# Altium schematic symbol library Connectors.SchLib: 23 symbols
Pins are listed as number, name and electrical type; pins without a type are passive.

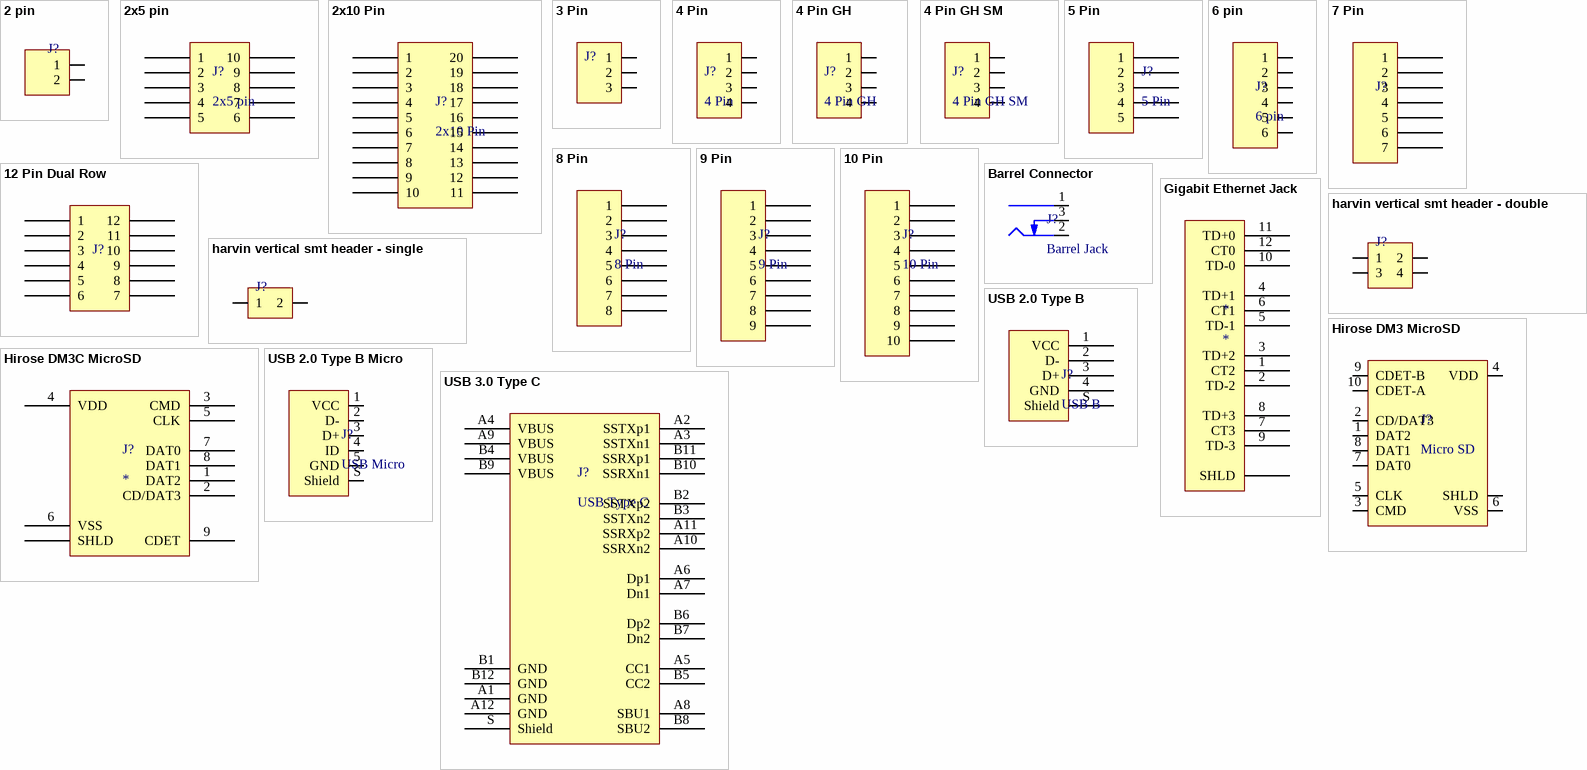
[diagram p0: symbols 2 pin to USB 3.0 Type C]

## 2 pin
designator J?  (value not drawn)
2 pin header, male
footprint HDR 1x2 2.54
pins: 1, 2 "Pin header"

## 2x5 pin
designator J?
2x5 pin header, male
pins: 1, 2, 3, 4, 5, 6, 7, 8, 9, 10

## 2x10 Pin
designator J?
2x10 pin header, male
pins: 1, 2, 3, 4, 5, 6, 7, 8, 9, 10, 11, 12, 13, 14, 15, 16, 17, 18, 19, 20

## 3 Pin
designator J?  (value not drawn)
3 pin header, male
footprint HDR 1x3 2.54
pins: 1, 2, 3

## 4 Pin
designator J?
4 pin header, male
footprint HDR 1x4 2.54
pins: 1, 2, 3, 4

## 4 Pin GH
designator J?
Złącze GH, męskie, proste, 4 piny, SMD
footprint BM04B
pins: 1, 2, 3, 4

## 4 Pin GH SM
designator J?
Złącze GH, męskie, poziome, 4 piny, SMD
footprint SM04B
pins: 1, 2, 3, 4

## 5 Pin
designator J?
pins: 1, 2, 3, 4, 5

## 6 pin
designator J?
6 pin header, male
footprint HDR 1x6 2.54
pins: 1, 2, 3, 4, 5, 6

## 7 Pin
designator J?
pins: 1, 2, 3, 4, 5, 6, 7

## 8 Pin
designator J?
pins: 1, 2, 3, 4, 5, 6, 7, 8

## 9 Pin
designator J?
pins: 1, 2, 3, 4, 5, 6, 7, 8, 9

## 10 Pin
designator J?
pins: 1, 2, 3, 4, 5, 6, 7, 8, 9, 10

## 12 Pin Dual Row
designator J?
pins: 1, 2, 3, 4, 5, 6, 7, 8, 9, 10, 11, 12

## Barrel Connector
designator J?, comment Barrel Jack
pins: 1 Centre, 2 Outer, 3 SW
1 alternate drawing of the same symbol

## Gigabit Ethernet Jack
designator *
pins: 1 CT2, 2 TD-2, 3 TD+2, 4 TD+1, 5 TD-1, 6 CT1, 7 CT3, 8 TD+3, 9 TD-3, 10 TD-0, 11 TD+0, 12 CT0, S SHLD

## harvin vertical smt header - double
designator J?, comment 4 pin  (value not drawn)
4 pin vertical connection smt harvin
footprint Harwin vertical smt header - double
pins: 1, 2, 3, 4

## harvin vertical smt header - single
designator J?, comment 2 pin  (value not drawn)
2 pin vertical connection smt harvin
footprint Harwin vertical smt header - single
pins: 1, 2 "Pin header"

## Hirose DM3 MicroSD
designator J?, comment Micro SD
Micro sd card slot
footprint HIROSE DM3AT-SF-PEJM5
pins: 1 DAT2, 2 CD/DAT3, 3 CMD, 4 VDD, 5 CLK, 6 VSS, 7 DAT0, 8 DAT1, 9 CDET-B, 10 CDET-A, S SHLD

## Hirose DM3C MicroSD
designator J?
pins: 1 DAT2, 2 CD/DAT3, 3 CMD, 4 VDD, 5 CLK, 6 VSS, 7 DAT0, 8 DAT1, 9 CDET, S SHLD

## USB 2.0 Type B
designator J?, comment USB B
pins: 1 VCC, 2 D-, 3 D+, 4 GND, S Shield

## USB 2.0 Type B Micro
designator J?, comment USB Micro
Micro usb
footprint FCI USB 10118193-0001LF (USB 2.0 Type B Micro)
pins: 1 VCC, 2 D-, 3 D+, 4 ID, 5 GND, S Shield

## USB 3.0 Type C
designator J?, comment USB Type C
pins: A1 GND, A2 SSTXp1, A3 SSTXn1, A4 VBUS, A5 CC1, A6 Dp1, A7 Dn1, A8 SBU1, A9 VBUS, A10 SSRXn2, A11 SSRXp2, A12 GND, B1 GND, B2 SSTXp2, B3 SSTXn2, B4 VBUS, B5 CC2, B6 Dp2, B7 Dn2, B8 SBU2, B9 VBUS, B10 SSRXn1, B11 SSRXp1, B12 GND, S Shield